# Altium footprint library LM25101.PcbLib: 1 footprints
Each footprint in its own frame and in the unit in brackets; x right, y up, seen from the top. Pads: shape width x height; smd on the part's side, far side on the other; paste and mask are expansions set on the pad; w line width, h text height; cw(c..) or ccw(c..) is an arc to the next point about the centre after c.
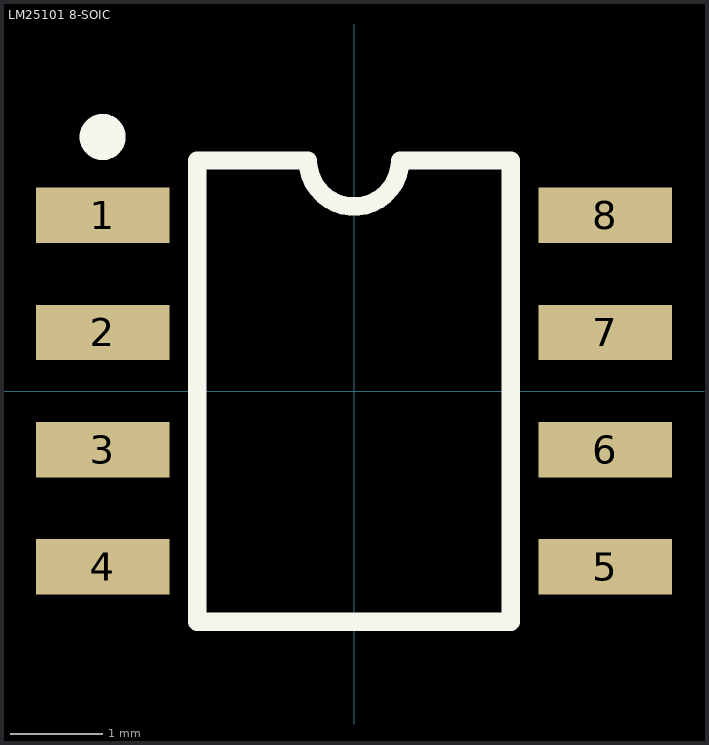
[diagram p0: the footprint, top view; thin cyan lines are the x and y axes]

## LM25101 8-SOIC [mm] "Half-Bridge Gate Driver IC Non-Inverting 8-SOIC"
height 1.7
pads (8):
  rect 1.45x0.6 smd: 1(-2.725,1.905) 2(-2.725,0.635) 3(-2.725,-0.635) 4(-2.725,-1.905) 5(2.725,-1.905) 6(2.725,-0.635) 7(2.725,0.635) 8(2.725,1.905)
Top Overlay:
  circle w0.25: c-2.725,2.755 r0.125
  lines w0.2: -1.7,-2.5 -1.7,2.5 -0.5,2.5 ccw(c0,2.5) 0.5,2.5 1.7,2.5 1.7,-2.5 -1.7,-2.5
3D body "User Library-SOIC8_JEDEC_MS-012AA.step": height 1.75, standoff -0.01, extent -3.1,-2.5 3.1,2.5